# Altium integrated library MMDT5451.IntLib: 1 symbol
Pins are listed as number, name and electrical type; pins without a type are passive.

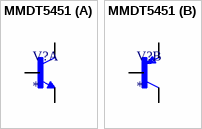
[diagram p0: symbol MMDT5451]

## MMDT5451
designator V?
Transistors - Bipolar (BJT) - Si; MF: Yangjie Technology; MP: MMDT5451; SnapEDA_Link: https://www.snapeda.com/parts/MMDT5451/E-Tech/view-part/?ref=snap; Package: None; Value: *; Check_prices: https://www.snapeda.com/parts/MMDT5451/E-Tech/view-part/?ref=eda
footprint SOT23-6
part A pins: 1 E, 2 B, 6 C
part B pins: 3 C, 4 E, 5 B